# Altium footprint library 0525590652.PcbLib: 1 footprints
Each footprint in its own frame and in the unit in brackets; x right, y up, seen from the top. Pads: shape width x height; smd on the part's side, far side on the other; paste and mask are expansions set on the pad; w line width, h text height; cw(c..) or ccw(c..) is an arc to the next point about the centre after c.
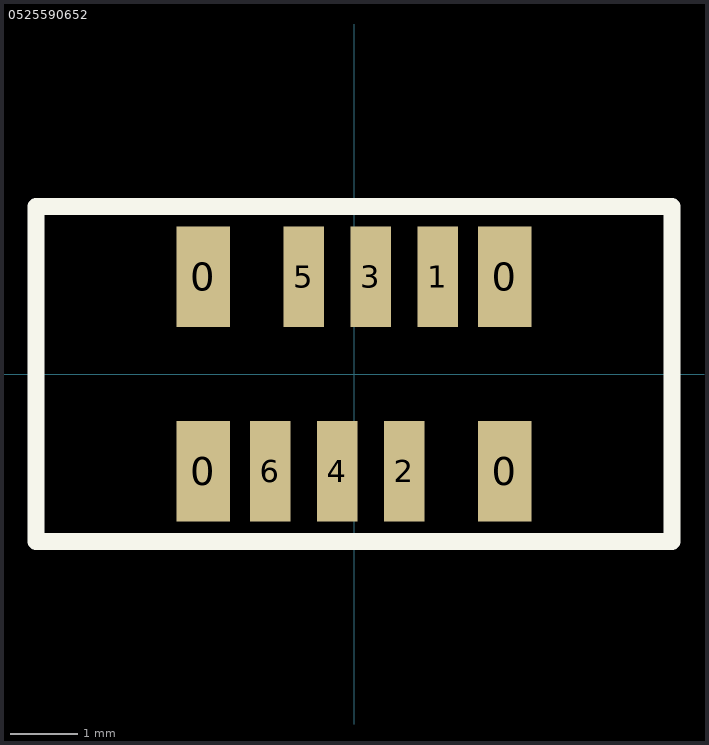
[diagram p0: the footprint, top view; thin cyan lines are the x and y axes]

## 0525590652 [mm]
pads (10):
  rect 0.8x1.5 smd: 0(-2.25,-1.45) 0(-2.25,1.45) 0(2.25,-1.45) 0(2.25,1.45)
  rect 0.6x1.5 smd: 1(1.25,1.45) 2(0.75,-1.45) 3(0.25,1.45) 4(-0.25,-1.45) 5(-0.75,1.45) 6(-1.25,-1.45)
Top Overlay:
  lines w0.254: -4.75,-2.5 -4.75,2.5 -4.25,2.5 2.25,2.5 4.75,2.5 4.75,1.5 4.75,-2.5 -4.75,-2.5
3D body: height 5.3, standoff 0, extent -4.35,-1.65 4.35,1.85